# Altium footprint library Renesas Logic.PcbLib: 85 footprints (part 5 of 6)
Each footprint in its own frame and in the unit in brackets; x right, y up, seen from the top. Pads: shape width x height; smd on the part's side, far side on the other; paste and mask are expansions set on the pad; w line width, h text height; cw(c..) or ccw(c..) is an arc to the next point about the centre after c.
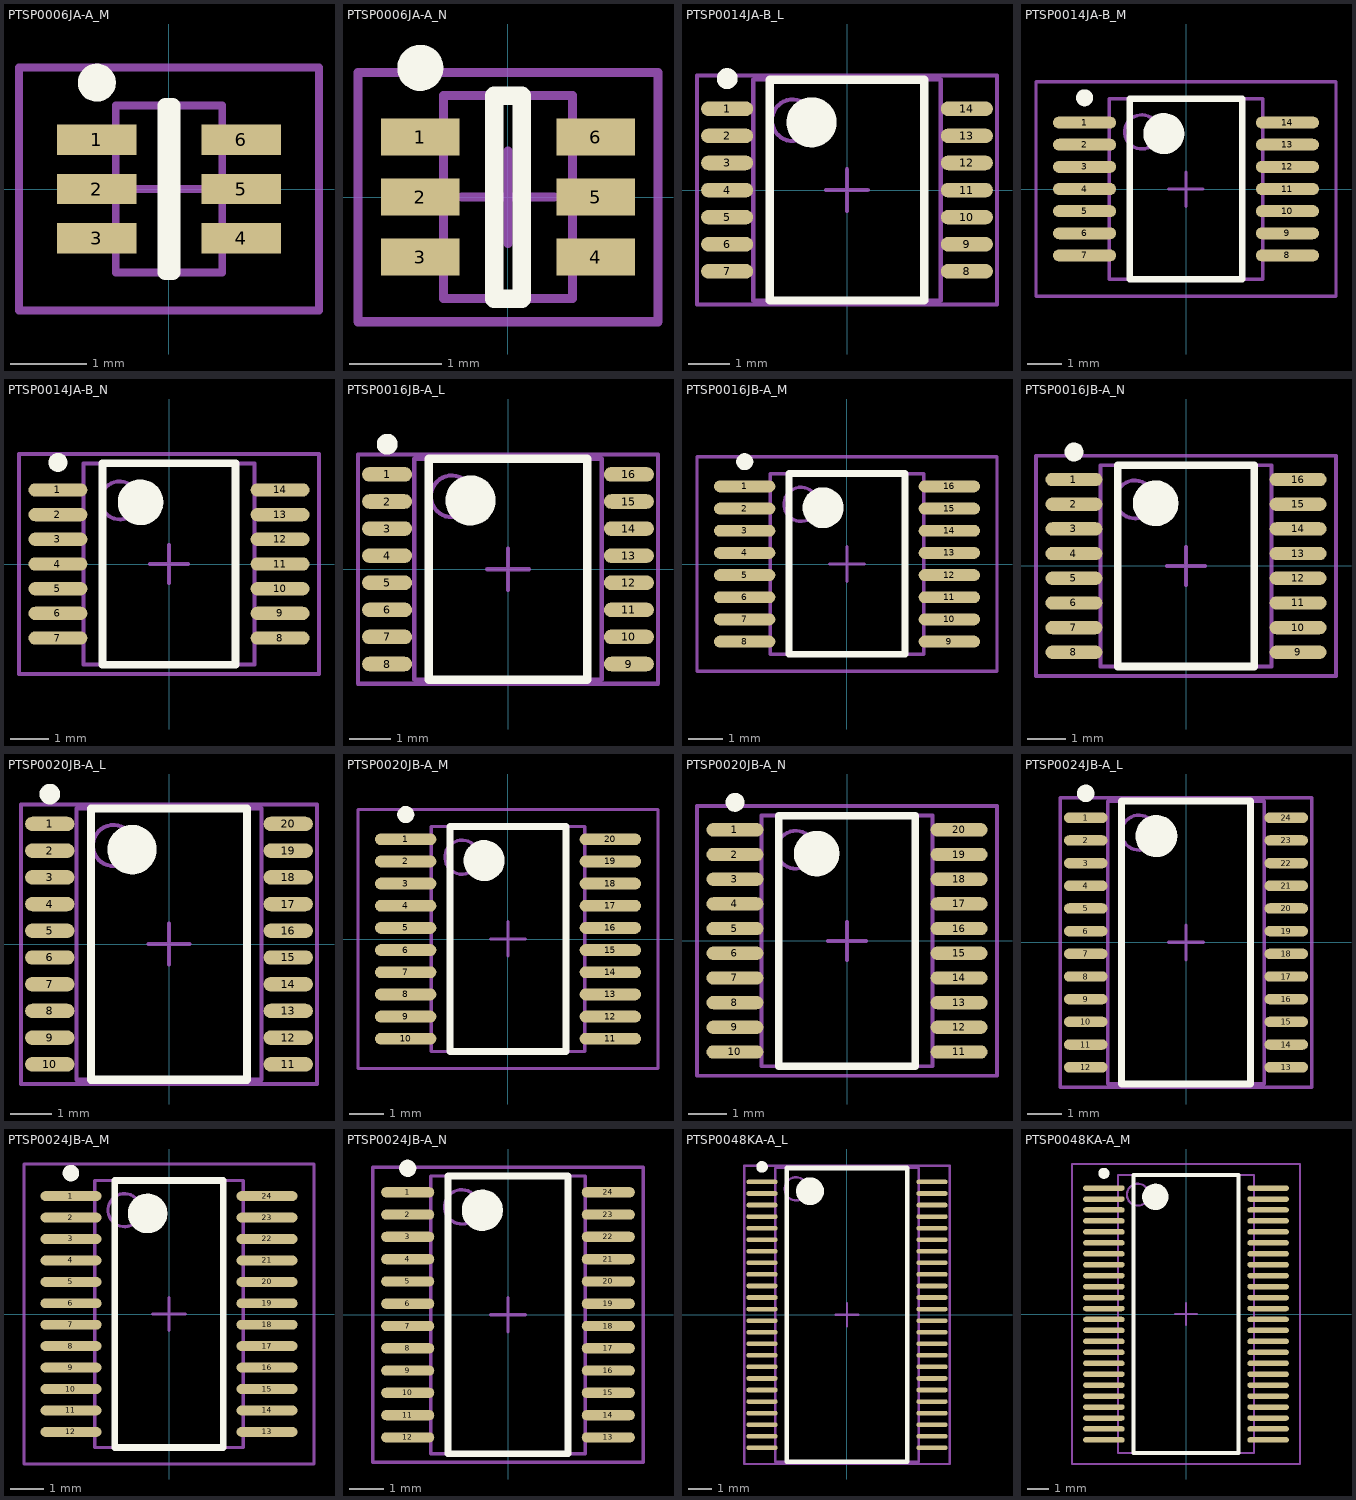
[diagram p4: the footprints below, top view; thin cyan lines are the x and y axes]

## PTSP0006JA-A_M [mm] "SOT363, 6-Leads, Body 2x1.3mm, Pitch 0.65mm, Lead Span 2.1mm, IPC Low Density"
height 1.1
pads (6):
  rect 1.05x0.4 smd: 1(-0.95,0.65) 2(-0.95,0) 3(-0.95,-0.65) 4(0.95,-0.65) 5(0.95,0) 6(0.95,0.65)
Top Overlay:
  circle w0.25: c-0.95,1.4 r0.125
  lines w0.2: -0.05,-1.1 0.05,-1.1 0.05,1.1 -0.05,1.1 -0.05,-1.1
Mechanical 13:
  lines w0.1: -0.7,-1.1 -0.7,1.1 0.7,1.1 0.7,-1.1 -0.7,-1.1
Mechanical 15:
  lines w0.1: -0.5,0 0.5,0 ; 0,-0.5 0,0.5 ; -1.975,-1.6 -1.975,1.6 1.975,1.6 1.975,-1.6 -1.975,-1.6
3D body: height 1.1, standoff 0, extent -0.7,-1.1 0.7,1.1

## PTSP0006JA-A_N [mm] "SOT363, 6-Leads, Body 2x1.3mm, Pitch 0.65mm, Lead Span 2.1mm, IPC Medium Density"
height 1.1
pads (6):
  rect 0.85x0.4 smd: 1(-0.95,0.65) 2(-0.95,0) 3(-0.95,-0.65) 4(0.95,-0.65) 5(0.95,0) 6(0.95,0.65)
Top Overlay:
  circle w0.25: c-0.95,1.4 r0.125
  lines w0.2: -0.15,-1.1 0.15,-1.1 0.15,1.1 -0.15,1.1 -0.15,-1.1
Mechanical 13:
  lines w0.1: -0.7,-1.1 -0.7,1.1 0.7,1.1 0.7,-1.1 -0.7,-1.1
Mechanical 15:
  lines w0.1: -0.5,0 0.5,0 ; 0,-0.5 0,0.5 ; -1.625,-1.35 -1.625,1.35 1.625,1.35 1.625,-1.35 -1.625,-1.35
3D body: height 1.1, standoff 0, extent -0.7,-1.1 0.7,1.1

## PTSP0014JA-B_L [mm] "TSOP, 14-Leads, Body 5x4.4mm, Pitch 0.65mm, IPC High Density"
height 1.1
pads (14):
  oval 1.25x0.35 smd: 1(-2.875,1.95) 2(-2.875,1.3) 3(-2.875,0.65) 4(-2.875,0) 5(-2.875,-0.65) 6(-2.875,-1.3) 7(-2.875,-1.95) 8(2.875,-1.95) 9(2.875,-1.3) 10(2.875,-0.65) 11(2.875,0) 12(2.875,0.65) 13(2.875,1.3) 14(2.875,1.95)
Top Overlay:
  circle w0.25: c-2.875,2.675 r0.125
  circle w0.6: c-0.85,1.625 r0.3
  lines w0.2: -1.85,-2.65 1.85,-2.65 1.85,2.65 -1.85,2.65 -1.85,-2.65
Mechanical 13:
  circle w0.1: c-1.3,1.675 r0.5
  lines w0.1: -2.25,-2.65 2.25,-2.65 2.25,2.65 -2.25,2.65 -2.25,-2.65
Mechanical 15:
  lines w0.1: -0.5,0 0.5,0 ; 0,-0.5 0,0.5 ; -3.6,-2.75 3.6,-2.75 3.6,2.75 -3.6,2.75 -3.6,-2.75
3D body: height 1.1, standoff 0.03, extent -2.249,-2.649 2.249,2.649

## PTSP0014JA-B_M [mm] "TSOP, 14-Leads, Body 5x4.4mm, Pitch 0.65mm, IPC Low Density"
height 1.1
pads (14):
  oval 1.85x0.35 smd: 1(-2.975,1.95) 2(-2.975,1.3) 3(-2.975,0.65) 4(-2.975,0) 5(-2.975,-0.65) 6(-2.975,-1.3) 7(-2.975,-1.95) 8(2.975,-1.95) 9(2.975,-1.3) 10(2.975,-0.65) 11(2.975,0) 12(2.975,0.65) 13(2.975,1.3) 14(2.975,1.95)
Top Overlay:
  circle w0.25: c-2.975,2.675 r0.125
  circle w0.6: c-0.65,1.625 r0.3
  lines w0.2: -1.65,-2.65 1.65,-2.65 1.65,2.65 -1.65,2.65 -1.65,-2.65
Mechanical 13:
  circle w0.1: c-1.3,1.675 r0.5
  lines w0.1: -2.25,-2.65 2.25,-2.65 2.25,2.65 -2.25,2.65 -2.25,-2.65
Mechanical 15:
  lines w0.1: -0.5,0 0.5,0 ; 0,-0.5 0,0.5 ; -4.4,-3.15 4.4,-3.15 4.4,3.15 -4.4,3.15 -4.4,-3.15
3D body: height 1.1, standoff 0.03, extent -2.249,-2.649 2.249,2.649

## PTSP0014JA-B_N [mm] "TSOP, 14-Leads, Body 5x4.4mm, Pitch 0.65mm, IPC Medium Density"
height 1.1
pads (14):
  oval 1.55x0.35 smd: 1(-2.925,1.95) 2(-2.925,1.3) 3(-2.925,0.65) 4(-2.925,0) 5(-2.925,-0.65) 6(-2.925,-1.3) 7(-2.925,-1.95) 8(2.925,-1.95) 9(2.925,-1.3) 10(2.925,-0.65) 11(2.925,0) 12(2.925,0.65) 13(2.925,1.3) 14(2.925,1.95)
Top Overlay:
  circle w0.6: c-0.75,1.625 r0.3
  circle w0.25: c-2.925,2.675 r0.125
  lines w0.2: -1.75,-2.65 1.75,-2.65 1.75,2.65 -1.75,2.65 -1.75,-2.65
Mechanical 13:
  circle w0.1: c-1.3,1.675 r0.5
  lines w0.1: -2.25,-2.65 -2.25,2.65 2.25,2.65 2.25,-2.65 -2.25,-2.65
Mechanical 15:
  lines w0.1: -0.5,0 0.5,0 ; 0,-0.5 0,0.5 ; -3.95,-2.9 -3.95,2.9 3.95,2.9 3.95,-2.9 -3.95,-2.9
3D body: height 1.1, standoff 0.03, extent -2.249,-2.649 2.249,2.649

## PTSP0016JB-A_L [mm] "TSOP, 16-Leads, Body 5x4.4mm, Pitch 0.65mm, IPC High Density"
height 1.1
pads (16):
  oval 1.2x0.35 smd: 1(-2.9,2.275) 2(-2.9,1.625) 3(-2.9,0.975) 4(-2.9,0.325) 5(-2.9,-0.325) 6(-2.9,-0.975) 7(-2.9,-1.625) 8(-2.9,-2.275) 9(2.9,-2.275) 10(2.9,-1.625) 11(2.9,-0.975) 12(2.9,-0.325) 13(2.9,0.325) 14(2.9,0.975) 15(2.9,1.625) 16(2.9,2.275)
Top Overlay:
  circle w0.25: c-2.9,3 r0.125
  circle w0.6: c-0.9,1.65 r0.3
  lines w0.2: -1.9,-2.65 -1.9,2.65 1.9,2.65 1.9,-2.65 -1.9,-2.65
Mechanical 13:
  circle w0.1: c-1.35,1.75 r0.5
  lines w0.1: -2.25,-2.65 -2.25,2.65 2.25,2.65 2.25,-2.65 -2.25,-2.65
Mechanical 15:
  lines w0.1: -0.5,0 0.5,0 ; 0,-0.5 0,0.5 ; -3.6,-2.75 -3.6,2.75 3.6,2.75 3.6,-2.75 -3.6,-2.75
3D body: height 1.1, standoff 0.03, extent -2.25,-2.65 2.25,2.65

## PTSP0016JB-A_M [mm] "TSOP, 16-Leads, Body 5x4.4mm, Pitch 0.65mm, IPC Low Density"
height 1.1
pads (16):
  oval 1.8x0.35 smd: 1(-3,2.275) 2(-3,1.625) 3(-3,0.975) 4(-3,0.325) 5(-3,-0.325) 6(-3,-0.975) 7(-3,-1.625) 8(-3,-2.275) 9(3,-2.275) 10(3,-1.625) 11(3,-0.975) 12(3,-0.325) 13(3,0.325) 14(3,0.975) 15(3,1.625) 16(3,2.275)
Top Overlay:
  circle w0.6: c-0.7,1.65 r0.3
  circle w0.25: c-3,3 r0.125
  lines w0.2: -1.7,-2.65 1.7,-2.65 1.7,2.65 -1.7,2.65 -1.7,-2.65
Mechanical 13:
  circle w0.1: c-1.35,1.75 r0.5
  lines w0.1: -2.25,-2.65 2.25,-2.65 2.25,2.65 -2.25,2.65 -2.25,-2.65
Mechanical 15:
  lines w0.1: -0.5,0 0.5,0 ; 0,-0.5 0,0.5 ; -4.4,-3.15 4.4,-3.15 4.4,3.15 -4.4,3.15 -4.4,-3.15
3D body: height 1.1, standoff 0.03, extent -2.25,-2.65 2.25,2.65

## PTSP0016JB-A_N [mm] "TSOP, 16-Leads, Body 5x4.4mm, Pitch 0.65mm, IPC Medium Density"
height 1.1
pads (16):
  oval 1.5x0.35 smd: 1(-2.95,2.275) 2(-2.95,1.625) 3(-2.95,0.975) 4(-2.95,0.325) 5(-2.95,-0.325) 6(-2.95,-0.975) 7(-2.95,-1.625) 8(-2.95,-2.275) 9(2.95,-2.275) 10(2.95,-1.625) 11(2.95,-0.975) 12(2.95,-0.325) 13(2.95,0.325) 14(2.95,0.975) 15(2.95,1.625) 16(2.95,2.275)
Top Overlay:
  circle w0.25: c-2.95,3 r0.125
  circle w0.6: c-0.8,1.65 r0.3
  lines w0.2: -1.8,-2.65 -1.8,2.65 1.8,2.65 1.8,-2.65 -1.8,-2.65
Mechanical 13:
  circle w0.1: c-1.35,1.75 r0.5
  lines w0.1: -2.25,-2.65 -2.25,2.65 2.25,2.65 2.25,-2.65 -2.25,-2.65
Mechanical 15:
  lines w0.1: -0.5,0 0.5,0 ; 0,-0.5 0,0.5 ; -3.95,-2.9 -3.95,2.9 3.95,2.9 3.95,-2.9 -3.95,-2.9
3D body: height 1.1, standoff 0.03, extent -2.25,-2.65 2.25,2.65

## PTSP0020JB-A_L [mm] "TSOP, 20-Leads, Body 6.5x4.4mm, Pitch 0.65mm, IPC High Density"
height 1.1
pads (20):
  oval 1.2x0.35 smd: 1(-2.9,2.925) 2(-2.9,2.275) 3(-2.9,1.625) 4(-2.9,0.975) 5(-2.9,0.325) 6(-2.9,-0.325) 7(-2.9,-0.975) 8(-2.9,-1.625) 9(-2.9,-2.275) 10(-2.9,-2.925) 11(2.9,-2.925) 12(2.9,-2.275) 13(2.9,-1.625) 14(2.9,-0.975) 15(2.9,-0.325) 16(2.9,0.325) 17(2.9,0.975) 18(2.9,1.625) 19(2.9,2.275) 20(2.9,2.925)
Top Overlay:
  circle w0.6: c-0.9,2.3 r0.3
  circle w0.25: c-2.9,3.65 r0.125
  lines w0.2: -1.9,-3.3 1.9,-3.3 1.9,3.3 -1.9,3.3 -1.9,-3.3
Mechanical 13:
  circle w0.1: c-1.35,2.4 r0.5
  lines w0.1: -2.25,-3.3 2.25,-3.3 2.25,3.3 -2.25,3.3 -2.25,-3.3
Mechanical 15:
  lines w0.1: -0.5,0 0.5,0 ; 0,-0.5 0,0.5 ; -3.6,-3.4 3.6,-3.4 3.6,3.4 -3.6,3.4 -3.6,-3.4
3D body: height 1.1, standoff 0, extent -2.25,-3.3 2.25,3.3

## PTSP0020JB-A_M [mm] "TSOP, 20-Leads, Body 6.5x4.4mm, Pitch 0.65mm, IPC Low Density"
height 1.1
pads (20):
  oval 1.8x0.35 smd: 1(-3,2.925) 2(-3,2.275) 3(-3,1.625) 4(-3,0.975) 5(-3,0.325) 6(-3,-0.325) 7(-3,-0.975) 8(-3,-1.625) 9(-3,-2.275) 10(-3,-2.925) 11(3,-2.925) 12(3,-2.275) 13(3,-1.625) 14(3,-0.975) 15(3,-0.325) 16(3,0.325) 17(3,0.975) 18(3,1.625) 19(3,2.275) 20(3,2.925)
Top Overlay:
  circle w0.25: c-3,3.65 r0.125
  circle w0.6: c-0.7,2.3 r0.3
  lines w0.2: -1.7,-3.3 -1.7,3.3 1.7,3.3 1.7,-3.3 -1.7,-3.3
Mechanical 13:
  circle w0.1: c-1.35,2.4 r0.5
  lines w0.1: -2.25,-3.3 -2.25,3.3 2.25,3.3 2.25,-3.3 -2.25,-3.3
Mechanical 15:
  lines w0.1: -0.5,0 0.5,0 ; 0,-0.5 0,0.5 ; -4.4,-3.8 -4.4,3.8 4.4,3.8 4.4,-3.8 -4.4,-3.8
3D body: height 1.1, standoff 0, extent -2.25,-3.3 2.25,3.3

## PTSP0020JB-A_N [mm] "TSOP, 20-Leads, Body 6.5x4.4mm, Pitch 0.65mm, IPC Medium Density"
height 1.1
pads (20):
  oval 1.5x0.35 smd: 1(-2.95,2.925) 2(-2.95,2.275) 3(-2.95,1.625) 4(-2.95,0.975) 5(-2.95,0.325) 6(-2.95,-0.325) 7(-2.95,-0.975) 8(-2.95,-1.625) 9(-2.95,-2.275) 10(-2.95,-2.925) 11(2.95,-2.925) 12(2.95,-2.275) 13(2.95,-1.625) 14(2.95,-0.975) 15(2.95,-0.325) 16(2.95,0.325) 17(2.95,0.975) 18(2.95,1.625) 19(2.95,2.275) 20(2.95,2.925)
Top Overlay:
  circle w0.6: c-0.8,2.3 r0.3
  circle w0.25: c-2.95,3.65 r0.125
  lines w0.2: -1.8,-3.3 1.8,-3.3 1.8,3.3 -1.8,3.3 -1.8,-3.3
Mechanical 13:
  circle w0.1: c-1.35,2.4 r0.5
  lines w0.1: -2.25,-3.3 2.25,-3.3 2.25,3.3 -2.25,3.3 -2.25,-3.3
Mechanical 15:
  lines w0.1: -0.5,0 0.5,0 ; 0,-0.5 0,0.5 ; -3.95,-3.55 3.95,-3.55 3.95,3.55 -3.95,3.55 -3.95,-3.55
3D body: height 1.1, standoff 0, extent -2.25,-3.3 2.25,3.3

## PTSP0024JB-A_L [mm] "TSOP, 24-Leads, Body 7.8x4.4mm, Pitch 0.65mm, IPC High Density"
height 1.1
pads (24):
  oval 1.25x0.3 smd: 1(-2.875,3.575) 2(-2.875,2.925) 3(-2.875,2.275) 4(-2.875,1.625) 5(-2.875,0.975) 6(-2.875,0.325) 7(-2.875,-0.325) 8(-2.875,-0.975) 9(-2.875,-1.625) 10(-2.875,-2.275) 11(-2.875,-2.925) 12(-2.875,-3.575) 13(2.875,-3.575) 14(2.875,-2.925) 15(2.875,-2.275) 16(2.875,-1.625) 17(2.875,-0.975) 18(2.875,-0.325) 19(2.875,0.325) 20(2.875,0.975) 21(2.875,1.625) 22(2.875,2.275) 23(2.875,2.925) 24(2.875,3.575)
Top Overlay:
  circle w0.25: c-2.875,4.275 r0.125
  circle w0.6: c-0.85,3.05 r0.3
  lines w0.2: -1.85,-4.05 -1.85,4.05 1.85,4.05 1.85,-4.05 -1.85,-4.05
Mechanical 13:
  circle w0.1: c-1.35,3.15 r0.5
  lines w0.1: -2.25,-4.05 -2.25,4.05 2.25,4.05 2.25,-4.05 -2.25,-4.05
Mechanical 15:
  lines w0.1: -0.5,0 0.5,0 ; 0,-0.5 0,0.5 ; -3.6,-4.15 -3.6,4.15 3.6,4.15 3.6,-4.15 -3.6,-4.15
3D body: height 1.1, standoff 0.03, extent -2.25,-4.05 2.25,4.05

## PTSP0024JB-A_M [mm] "TSOP, 24-Leads, Body 7.8x4.4mm, Pitch 0.65mm, IPC Low Density"
height 1.1
pads (24):
  oval 1.85x0.3 smd: 1(-2.975,3.575) 2(-2.975,2.925) 3(-2.975,2.275) 4(-2.975,1.625) 5(-2.975,0.975) 6(-2.975,0.325) 7(-2.975,-0.325) 8(-2.975,-0.975) 9(-2.975,-1.625) 10(-2.975,-2.275) 11(-2.975,-2.925) 12(-2.975,-3.575) 13(2.975,-3.575) 14(2.975,-2.925) 15(2.975,-2.275) 16(2.975,-1.625) 17(2.975,-0.975) 18(2.975,-0.325) 19(2.975,0.325) 20(2.975,0.975) 21(2.975,1.625) 22(2.975,2.275) 23(2.975,2.925) 24(2.975,3.575)
Top Overlay:
  circle w0.6: c-0.65,3.05 r0.3
  circle w0.25: c-2.975,4.275 r0.125
  lines w0.2: -1.65,-4.05 1.65,-4.05 1.65,4.05 -1.65,4.05 -1.65,-4.05
Mechanical 13:
  circle w0.1: c-1.35,3.15 r0.5
  lines w0.1: -2.25,-4.05 2.25,-4.05 2.25,4.05 -2.25,4.05 -2.25,-4.05
Mechanical 15:
  lines w0.1: -0.5,0 0.5,0 ; 0,-0.5 0,0.5 ; -4.4,-4.55 4.4,-4.55 4.4,4.55 -4.4,4.55 -4.4,-4.55
3D body: height 1.1, standoff 0.03, extent -2.25,-4.05 2.25,4.05

## PTSP0024JB-A_N [mm] "TSOP, 24-Leads, Body 7.8x4.4mm, Pitch 0.65mm, IPC Medium Density"
height 1.1
pads (24):
  oval 1.55x0.3 smd: 1(-2.925,3.575) 2(-2.925,2.925) 3(-2.925,2.275) 4(-2.925,1.625) 5(-2.925,0.975) 6(-2.925,0.325) 7(-2.925,-0.325) 8(-2.925,-0.975) 9(-2.925,-1.625) 10(-2.925,-2.275) 11(-2.925,-2.925) 12(-2.925,-3.575) 13(2.925,-3.575) 14(2.925,-2.925) 15(2.925,-2.275) 16(2.925,-1.625) 17(2.925,-0.975) 18(2.925,-0.325) 19(2.925,0.325) 20(2.925,0.975) 21(2.925,1.625) 22(2.925,2.275) 23(2.925,2.925) 24(2.925,3.575)
Top Overlay:
  circle w0.25: c-2.925,4.275 r0.125
  circle w0.6: c-0.75,3.05 r0.3
  lines w0.2: -1.75,-4.05 -1.75,4.05 1.75,4.05 1.75,-4.05 -1.75,-4.05
Mechanical 13:
  circle w0.1: c-1.35,3.15 r0.5
  lines w0.1: -2.25,-4.05 -2.25,4.05 2.25,4.05 2.25,-4.05 -2.25,-4.05
Mechanical 15:
  lines w0.1: -0.5,0 0.5,0 ; 0,-0.5 0,0.5 ; -3.95,-4.3 -3.95,4.3 3.95,4.3 3.95,-4.3 -3.95,-4.3
3D body: height 1.1, standoff 0.03, extent -2.25,-4.05 2.25,4.05

## PTSP0048KA-A_L [mm] "TSSOP, 48-Leads, Body 12.5x6.1mm, Pitch 0.5mm, IPC High Density"
height 1.2
pads (48):
  oval 1.35x0.2 smd: 1(-3.675,5.75) 2(-3.675,5.25) 3(-3.675,4.75) 4(-3.675,4.25) 5(-3.675,3.75) 6(-3.675,3.25) 7(-3.675,2.75) 8(-3.675,2.25) 9(-3.675,1.75) 10(-3.675,1.25) 11(-3.675,0.75) 12(-3.675,0.25) 13(-3.675,-0.25) 14(-3.675,-0.75) 15(-3.675,-1.25) 16(-3.675,-1.75) 17(-3.675,-2.25) 18(-3.675,-2.75) 19(-3.675,-3.25) 20(-3.675,-3.75) 21(-3.675,-4.25) 22(-3.675,-4.75) 23(-3.675,-5.25) 24(-3.675,-5.75) 25(3.675,-5.75) 26(3.675,-5.25) 27(3.675,-4.75) 28(3.675,-4.25) 29(3.675,-3.75) 30(3.675,-3.25) 31(3.675,-2.75) 32(3.675,-2.25) 33(3.675,-1.75) 34(3.675,-1.25) 35(3.675,-0.75) 36(3.675,-0.25) 37(3.675,0.25) 38(3.675,0.75) 39(3.675,1.25) 40(3.675,1.75) 41(3.675,2.25) 42(3.675,2.75) 43(3.675,3.25) 44(3.675,3.75) 45(3.675,4.25) 46(3.675,4.75) 47(3.675,5.25) 48(3.675,5.75)
Top Overlay:
  circle w0.6: c-1.6,5.35 r0.3
  circle w0.25: c-3.675,6.4 r0.125
  lines w0.2: -2.6,-6.35 2.6,-6.35 2.6,6.35 -2.6,6.35 -2.6,-6.35
Mechanical 13:
  circle w0.1: c-2.2,5.45 r0.5
  lines w0.1: -3.1,-6.35 3.1,-6.35 3.1,6.35 -3.1,6.35 -3.1,-6.35
Mechanical 15:
  lines w0.1: -0.5,0 0.5,0 ; 0,-0.5 0,0.5 ; -4.45,-6.45 4.45,-6.45 4.45,6.45 -4.45,6.45 -4.45,-6.45
3D body: height 1.2, standoff 0.08, extent -3.1,-6.35 3.1,6.35

## PTSP0048KA-A_M [mm] "TSSOP, 48-Leads, Body 12.5x6.1mm, Pitch 0.5mm, IPC Low Density"
height 1.2
pads (48):
  oval 1.9x0.25 smd: 1(-3.75,5.75) 2(-3.75,5.25) 3(-3.75,4.75) 4(-3.75,4.25) 5(-3.75,3.75) 6(-3.75,3.25) 7(-3.75,2.75) 8(-3.75,2.25) 9(-3.75,1.75) 10(-3.75,1.25) 11(-3.75,0.75) 12(-3.75,0.25) 13(-3.75,-0.25) 14(-3.75,-0.75) 15(-3.75,-1.25) 16(-3.75,-1.75) 17(-3.75,-2.25) 18(-3.75,-2.75) 19(-3.75,-3.25) 20(-3.75,-3.75) 21(-3.75,-4.25) 22(-3.75,-4.75) 23(-3.75,-5.25) 24(-3.75,-5.75) 25(3.75,-5.75) 26(3.75,-5.25) 27(3.75,-4.75) 28(3.75,-4.25) 29(3.75,-3.75) 30(3.75,-3.25) 31(3.75,-2.75) 32(3.75,-2.25) 33(3.75,-1.75) 34(3.75,-1.25) 35(3.75,-0.75) 36(3.75,-0.25) 37(3.75,0.25) 38(3.75,0.75) 39(3.75,1.25) 40(3.75,1.75) 41(3.75,2.25) 42(3.75,2.75) 43(3.75,3.25) 44(3.75,3.75) 45(3.75,4.25) 46(3.75,4.75) 47(3.75,5.25) 48(3.75,5.75)
Top Overlay:
  circle w0.6: c-1.4,5.35 r0.3
  circle w0.25: c-3.75,6.425 r0.125
  lines w0.2: -2.4,-6.35 2.4,-6.35 2.4,6.35 -2.4,6.35 -2.4,-6.35
Mechanical 13:
  circle w0.1: c-2.2,5.45 r0.5
  lines w0.1: -3.1,-6.35 3.1,-6.35 3.1,6.35 -3.1,6.35 -3.1,-6.35
Mechanical 15:
  lines w0.1: -0.5,0 0.5,0 ; 0,-0.5 0,0.5 ; -5.2,-6.85 5.2,-6.85 5.2,6.85 -5.2,6.85 -5.2,-6.85
3D body: height 1.2, standoff 0.08, extent -3.1,-6.35 3.1,6.35